# EAGLE library part FDC6333C (library Pinoccio)
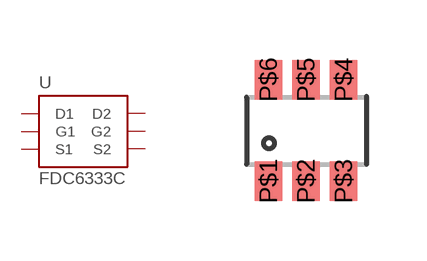
[diagram p38: symbol with the pads of SSOT-6; footprint SSOT-6]

Designator prefix -

## FDC6333CSSOT-6  [SSOT-6]
P$1  G2
P$2  S1
P$3  G1
P$4  D1
P$5  S2
P$6  D2

## Footprint SSOT-6 (pad centres in mm)
smd 0.686 x 0.991: P$1 0.343,0.495; P$2 1.283,0.495; P$3 2.223,0.495; P$4 2.223,3.035; P$5 1.283,3.035; P$6 0.343,3.035